# Altium schematic symbol library CAP_1210.SchLib: 1 symbol
Pins are listed as number, name and electrical type; pins without a type are passive.

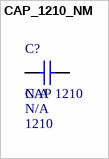
[diagram p0: symbol CAP_1210_NM]

## CAP_1210_NM
designator C?, comment CAP 1210  Package / Case: 1210
CAP, size 1210, NM, N/A; Packaging: Tape and Reel; Supplier 1: N/A; Supplier 1 Part Number: N/A; Supplier 1 URL: N/A; Tolerance: N/A; ComponentLink1Description: Datasheet; ComponentLink1URL: N/A; Mount: SMD/SMT; Operating Temperature Max: + 85 C; Operating Temperature Min: - 40 C; Voltage Rating DC: N/A; Capacitance: N/A
footprint CAP_1210
pins: 1, 2